# EAGLE library part LM5085 (library lolomolo)
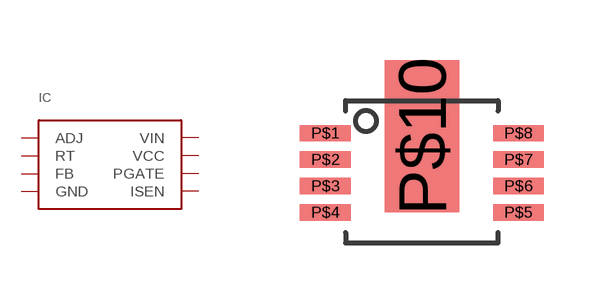
[diagram p11: symbol with the pads of HVSSOP; footprint HVSSOP]

Designator prefix IC

## LM5085  [HVSSOP]
P$1  ADJ
P$2  RT
P$3  FB
P$4  GND
P$5  ISEN
P$6  PGATE
P$7  VCC
P$8  VIN
P$10  GND

## Footprint HVSSOP (pad centres in mm)
smd 1.27 x 0.406: P$1 0,1.981; P$2 0,1.321; P$3 0,0.66; P$4 0,0; P$5 4.826,0; P$6 4.826,0.66; P$7 4.826,1.321; P$8 4.826,1.981
smd 1.854 x 3.81: P$10 2.413,1.905